# Altium footprint library 14-DHVQFN_TI.PcbLib: 1 footprints
Each footprint in its own frame and in the unit in brackets; x right, y up, seen from the top. Pads: shape width x height; smd on the part's side, far side on the other; paste and mask are expansions set on the pad; w line width, h text height; cw(c..) or ccw(c..) is an arc to the next point about the centre after c.
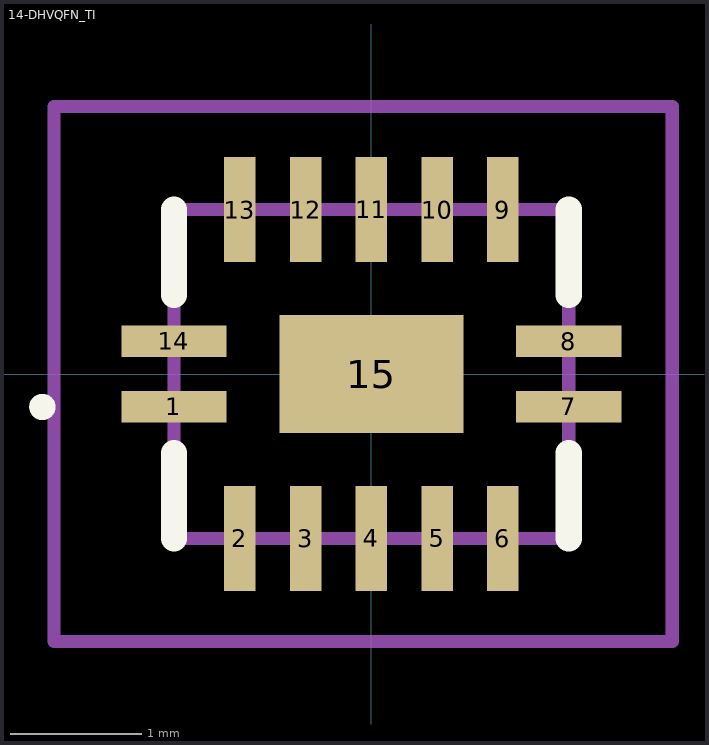
[diagram p0: the footprint, top view; thin cyan lines are the x and y axes]

## 14-DHVQFN_TI [mm]
pads (15):
  rect 0.8x0.24 smd: 1(-1.5,-0.25) 7(1.5,-0.25) 8(1.5,0.25) 14(-1.5,0.25)
  rect 0.24x0.8 smd: 2(-1,-1.25) 3(-0.5,-1.25) 4(0,-1.25) 5(0.5,-1.25) 6(1,-1.25) 9(1,1.25) 10(0.5,1.25) 11(0,1.25) 12(-0.5,1.25) 13(-1,1.25)
  rect 1.4x0.9 smd: 15(0,0)
Top Overlay:
  lines w0.1: -2.55,-0.25 ccw(c-2.5,-0.25) -2.45,-0.25 ccw(c-2.5,-0.25) -2.55,-0.25
  lines w0.2: -1.5,-1.25 -1.5,-0.6 ; -1.5,0.6 -1.5,1.25 ; 1.5,-1.25 1.5,-0.6 ; 1.5,0.6 1.5,1.25
Top 3D Body:
  lines w0.1: -1.5,-1.25 1.5,-1.25 1.5,1.25 -1.5,1.25 -1.5,-1.25
Top Courtyard:
  lines w0.1: -2.413,-2.032 2.286,-2.032 2.286,2.032 -2.413,2.032 -2.413,-2.032
3D body "74LVC04ABQ,115.stp": height 0.85, standoff 0, extent -1.498,-1.25 1.504,1.252